# Altium schematic symbol library RES_SMD_0603.SchLib: 1 symbol
Pins are listed as number, name and electrical type; pins without a type are passive.

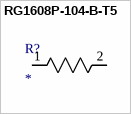
[diagram p0: symbol RG1608P-104-B-T5]

## RG1608P-104-B-T5
designator R?
No Description Available; Mfr_Name: Susumu
footprint RES_0816_SUS
pins: 1, 2